# EAGLE library part CON_HEADER_PRG_AVR_ICSP (library dp_devices)
2x3 AVR ICSP programming header
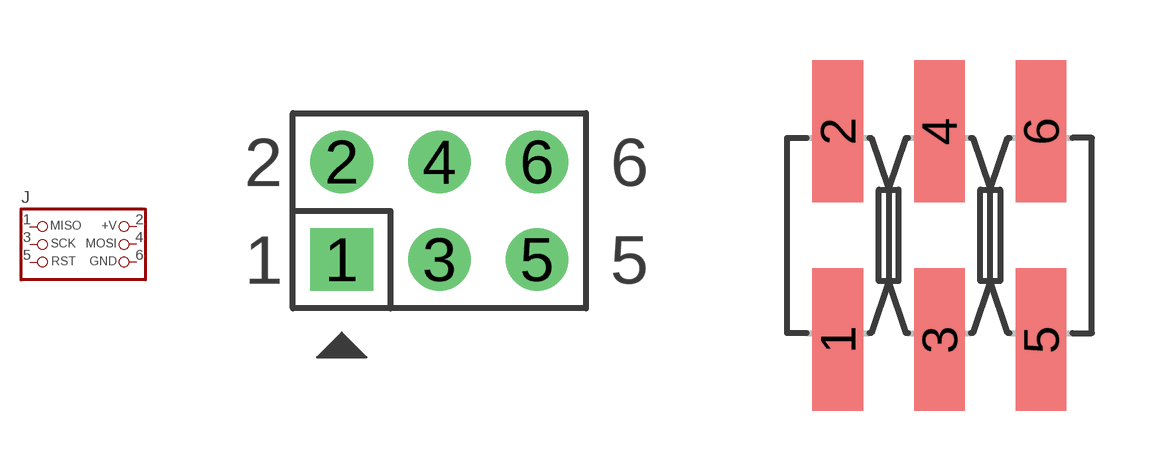
[diagram p15: symbol with the pads of HEADER_PRG_2X03; footprints HEADER_PRG_2X03, M2X3_SMD]

Designator prefix J

## CON_HEADER_PRG_AVR_ICSP-PTH  [HEADER_PRG_2X03]
1  MISO  pas
2  +V  pas
3  SCK  pas
4  MOSI  pas
5  RST  pas
6  GND  pas

## CON_HEADER_PRG_AVR_ICSP-SMD  [M2X3_SMD]
Pads as for HEADER_PRG_2X03

## Footprint HEADER_PRG_2X03 (pad centres in mm)
drill 1.02 pad 1.632 square: 1 -2.54,-1.27
drill 1.02 pad 1.632: 2 -2.54,1.27; 3 0,-1.27; 4 0,1.27; 5 2.54,-1.27; 6 2.54,1.27

## Footprint M2X3_SMD (pad centres in mm)
2x03 Straight male header SMD Mfr no:5-146134-2 5-146134-2 <http://www.digikey.com/product-search/en?x=0&y=0&lang=en&site=us&KeyWords=5-146134-2>
smd 1.27 x 3.56: 1 -2.54,-2.605; 2 -2.54,2.605; 3 0,-2.605; 4 0,2.605; 5 2.54,-2.605; 6 2.54,2.605